# EAGLE library part SAMACSYS_PARTS_SIS412DN-T1-GE3 (library LiPo Charger)
VISHAY - SIS412DN-T1-GE3 - MOSFET, N-CH, 30V, 12A, POWERPAK8 Source: Datasheet <https://componentsearchengine.com/Datasheets/1/SIS412DN-T1-GE3.pdf>
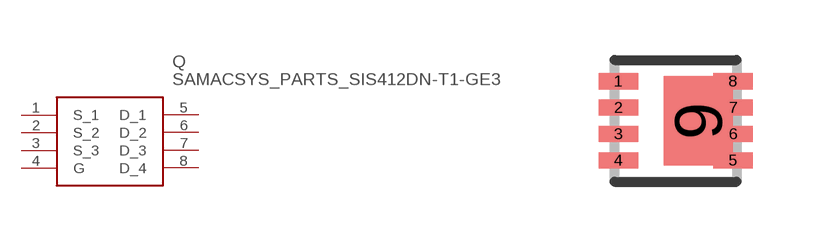
[diagram p2: symbol with the pads of SAMACSYS_PARTS_POWERPAK-1212-8; footprint SAMACSYS_PARTS_POWERPAK-1212-8]

Designator prefix Q

## SAMACSYS_PARTS_SIS412DN-T1-GE3 (DESCRIPTION: VISHAY - SIS412DN-T1-GE3 - MOSFET, N-CH, 30V, 12A, POWERPAK8; HEIGHT: mm; MANUFACTURER_NAME: Vishay; MANUFACTURER_PART_NUMBER: SIS412DN-T1-GE3; MOUSER_PART_NUMBER: 781-SIS412DN-T1-GE3; MOUSER_PRICE-STOCK: https://www.mouser.com/Search/Refine.aspx?Keyword=781-SIS412DN-T1-GE3)  [SAMACSYS_PARTS_POWERPAK-1212-8]
1  S_1
2  S_2
3  S_3
4  G
5  D_1
6  D_2
7  D_3
8  D_4

## Footprint SAMACSYS_PARTS_POWERPAK-1212-8 (pad centres in mm)
PowerPAK-1212-8
smd 0.99 x 0.405: 1 -1.435,0.99; 2 -1.435,0.33; 3 -1.435,-0.33; 4 -1.435,-0.99; 5 1.435,-0.99; 6 1.435,-0.33; 7 1.435,0.33; 8 1.435,0.99
smd 1.725 x 2.235: 9 0.557,0